# Altium footprint library SPINNER_TWIN_STARS.PcbLib: 46 footprints (part 1 of 3)
Each footprint in its own frame and in the unit in brackets; x right, y up, seen from the top. Pads: shape width x height; smd on the part's side, far side on the other; paste and mask are expansions set on the pad; w line width, h text height; cw(c..) or ccw(c..) is an arc to the next point about the centre after c.
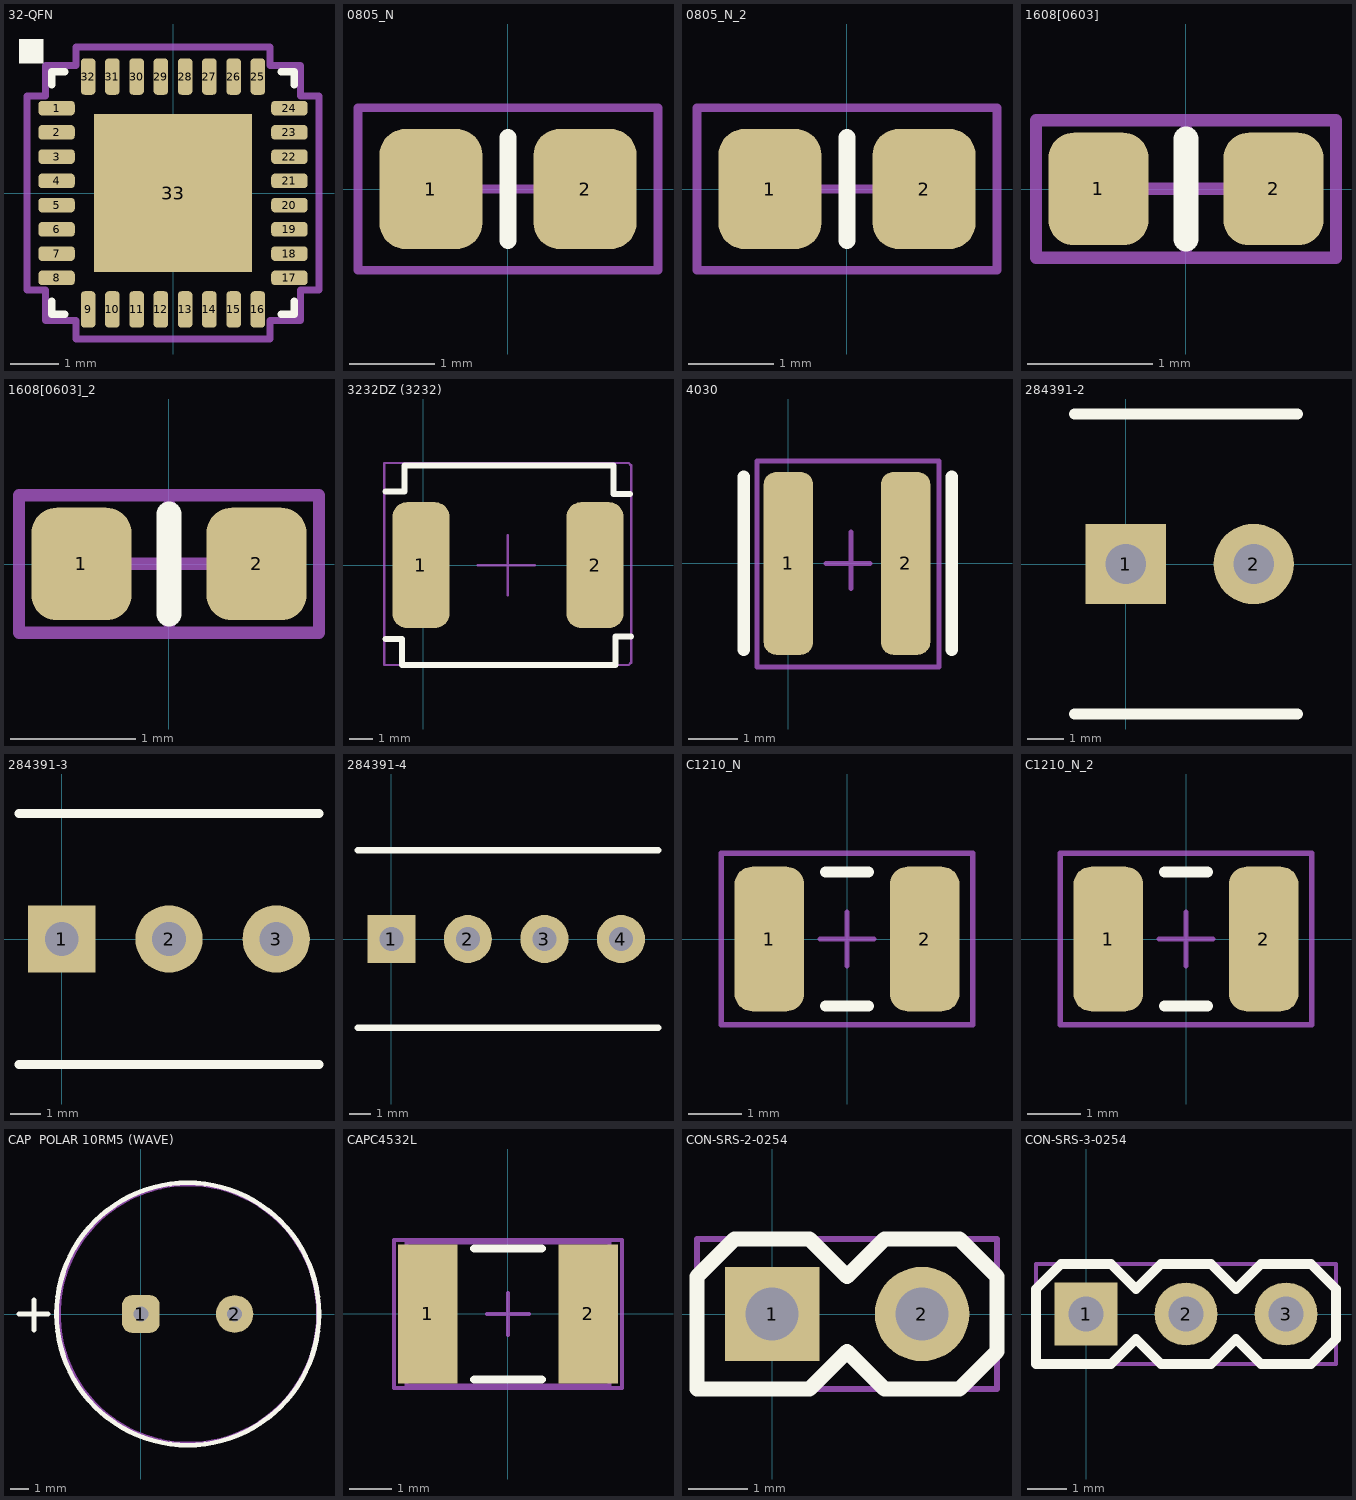
[diagram p0: the footprints below, top view; thin cyan lines are the x and y axes]

## 32-QFN [mm]
pads (33):
  rrect50% 0.75x0.3 smd mask+0.102: 1(-2.4,1.75)
  rrect50% 0.75x0.3 smd: 2(-2.4,1.25) 3(-2.4,0.75) 4(-2.4,0.25) 5(-2.4,-0.25) 6(-2.4,-0.75) 7(-2.4,-1.25) 8(-2.4,-1.75) 17(2.4,-1.75) 18(2.4,-1.25) 19(2.4,-0.75) 20(2.4,-0.25) 21(2.4,0.25) 22(2.4,0.75) 23(2.4,1.25) 24(2.4,1.75)
  rrect50% 0.3x0.75 smd mask+0.102: 9(-1.75,-2.4)
  rrect50% 0.3x0.75 smd: 10(-1.25,-2.4) 11(-0.75,-2.4) 12(-0.25,-2.4) 13(0.25,-2.4) 14(0.75,-2.4) 15(1.25,-2.4) 16(1.75,-2.4) 25(1.75,2.4) 26(1.25,2.4) 27(0.75,2.4) 28(0.25,2.4) 29(-0.25,2.4) 30(-0.75,2.4) 31(-1.25,2.4) 32(-1.75,2.4)
  rect 3.251x3.251 smd paste-1.613: 33(0,0)
Top silk:
  rectangle: -3.175,2.667 -2.667,3.175
  lines w0.152: -2.502,-2.235 -2.502,-2.502 -2.235,-2.502 ; -2.502,2.235 -2.502,2.502 -2.235,2.502 ; 2.235,-2.502 2.502,-2.502 2.502,-2.235 ; 2.235,2.502 2.502,2.502 2.502,2.235
Top Paste:
  region: -0.1,1.526 -1.526,1.526 -1.526,0.1 -0.1,0.1
  region: -0.1,-0.1 -1.526,-0.1 -1.526,-1.526 -0.1,-1.526
  region: 1.526,1.526 0.1,1.526 0.1,0.1 1.526,0.1
  region: 1.526,-0.1 0.1,-0.1 0.1,-1.526 1.526,-1.526
Mechanical 15:
  lines w0.152: -3.01,-2 -2.629,-2 -2.629,-2.629 -2,-2.629 -2,-3.01 2,-3.01 2,-2.629 2.629,-2.629 2.629,-2 3.01,-2 3.01,2 2.629,2 2.629,2.629 2,2.629 2,3.01 -2,3.01 -2,2.629 -2.629,2.629 -2.629,2 -3.01,2 -3.01,-2

## 0805_N [mm] "Chip Resistor, Body 2.0x1.2mm, IPC Medium Density"
height 0.7
pads (2):
  rrect50% 1.2x1.4 smd: 1(-0.9,0) 2(0.9,0)
Top silk:
  lines w0.2: 0,-0.6 0,0.6
Mechanical 15:
  lines w0.1: -0.5,0 0.5,0 ; 0,-0.5 0,0.5 ; -1.75,-0.95 1.75,-0.95 1.75,0.95 -1.75,0.95 -1.75,-0.95

## 0805_N_2 [mm]
pads (2):
  rrect50% 1.2x1.4 smd: 1(-0.9,0) 2(0.9,0)
Top silk:
  lines w0.2: 0,-0.6 0,0.6
Mechanical 15:
  lines w0.1: -0.5,0 0.5,0 ; 0,-0.5 0,0.5 ; -1.75,-0.95 -1.75,0.95 1.75,0.95 1.75,-0.95 -1.75,-0.95

## 1608[0603] [mm] "Chip Capacitor, Body 1.6x0.8mm, IPC High Density"
height 1.3
pads (2):
  rrect50% 0.8x0.9 smd: 1(-0.7,0) 2(0.7,0)
Top silk:
  lines w0.2: 0,-0.4 0,0.4
Mechanical 15:
  lines w0.1: -0.475,0 0.475,0 ; 0,-0.475 0,0.475 ; -1.2,-0.55 -1.2,0.55 1.2,0.55 1.2,-0.55 -1.2,-0.55

## 1608[0603]_2 [mm]
pads (2):
  rrect50% 0.8x0.9 smd: 1(-0.7,0) 2(0.7,0)
Top silk:
  lines w0.2: 0,-0.4 0,0.4
Mechanical 15:
  lines w0.1: -0.475,0 0.475,0 ; 0,-0.475 0,0.475 ; -1.2,-0.55 1.2,-0.55 1.2,0.55 -1.2,0.55 -1.2,-0.55

## 3232DZ (3232) [mm]
pads (2):
  rrect50% 2.4x5.3 smd paste-0.1 mask+0.1: 1(-0.1,0) 2(7.23,0)
Top silk:
  lines w0.254: -1.6,-3.1 -0.9,-3.1 -0.9,-4.2 8.1,-4.2 8.1,-3 8.75,-3 ; -1.6,3.1 -0.8,3.1 -0.8,4.2 8,4.2 8,3 8.7,3
Mechanical 15:
  lines w0.1: 2.286,0 4.699,0 ; 3.556,-1.27 3.556,1.27 ; -1.65,-4.2 -1.65,4.3 8.65,4.3 8.75,4.2 8.75,-4.1 8.65,-4.2 -1.65,-4.2

## 4030 [mm]
pads (2):
  rrect50% 1x3.7 smd paste-0.05 mask+0.1: 1(0,0) 2(2.37,0)
Top silk:
  lines w0.254: -0.9,-1.75 -0.9,1.75 ; 3.3,-1.75 3.3,1.75
Mechanical 15:
  lines w0.1: 0.762,0 1.651,0 ; 1.27,-0.508 1.27,0.635 ; -0.635,-2.1 3.048,-2.1 3.048,2.075 -0.635,2.075 -0.635,-2.1

## 284391-2 [mm] "3.5mm terminal block 2-pin"
height 12.6
pads (2):
  rect 2.2x2.2 hole 1.1: 1(0,0)
  round 2.2 hole 1.1: 2(3.5,0)
Top silk:
  lines w0.3: -1.4,-4.1 4.7,-4.1 ; -1.4,4.1 4.7,4.1

## 284391-3 [mm] "3.5mm terminal block 3-pin"
height 12.6
pads (3):
  rect 2.2x2.2 hole 1.1: 1(0,0)
  round 2.2 hole 1.1: 2(3.5,0) 3(7,0)
Top silk:
  lines w0.3: -1.4,-4.1 8.4,-4.1 ; -1.4,4.1 8.4,4.1

## 284391-4 [mm] "3.5mm terminal block 3-pin"
height 12.6
pads (4):
  rect 2.2x2.2 hole 1.1: 1(0,0)
  round 2.2 hole 1.1: 2(3.5,0) 3(7,0) 4(10.5,0)
Top silk:
  lines w0.3: -1.524,-4.064 12.192,-4.064 ; -1.524,4.064 12.192,4.064

## C1210_N [mm] "Chip Capacitor, Body 3.2x2.5mm, IPC Medium Density"
height 1.5
pads (2):
  rrect50% 1.3x2.7 smd: 1(-1.45,0) 2(1.45,0)
Top silk:
  lines w0.2: -0.4,-1.25 0.4,-1.25 ; -0.4,1.25 0.4,1.25
Mechanical 15:
  lines w0.1: -0.5,0 0.5,0 ; 0,-0.5 0,0.5 ; -2.35,-1.6 -2.35,1.6 2.35,1.6 2.35,-1.6 -2.35,-1.6

## C1210_N_2 [mm]
pads (2):
  rrect50% 1.3x2.7 smd: 1(-1.45,0) 2(1.45,0)
Top silk:
  lines w0.2: -0.4,-1.25 0.4,-1.25 ; -0.4,1.25 0.4,1.25
Mechanical 15:
  lines w0.1: -0.5,0 0.5,0 ; 0,-0.5 0,0.5 ; -2.35,-1.6 2.35,-1.6 2.35,1.6 -2.35,1.6 -2.35,-1.6

## CAP  POLAR 10RM5 (WAVE) [mm]
pads (2):
  rrect50% 2x2 hole 0.8 paste+0 mask+0.635: 1(0,0)
  round 2 hole 0.8 paste+0 mask+0.635: 2(5,0)
Top silk:
  lines w0.254: -6.5,0 -4.95,0 ; -5.7,-0.85 -5.7,0.75 ; 2.5,-7 ccw(c2.5,0) 2.5,7 ccw(c2.5,0) 2.5,-7
Mechanical 15:
  circle w0.254: c2.54,0 r6.94

## CAPC4532L [mm] "Chip Capacitor, Body 4.5x3.2mm, IPC High Density"
height 1.4
pads (2):
  rect 1.4x3.3 smd: 1(-1.9,0) 2(1.9,0)
Top silk:
  lines w0.2: -0.8,-1.55 0.8,-1.55 ; -0.8,1.55 0.8,1.55
Documentation:
  lines w0.1: -2.4,-1.7 -2.4,1.7 2.4,1.7 2.4,-1.7 -2.4,-1.7
Mechanical 15:
  lines w0.1: -0.5,0 0.5,0 ; 0,-0.5 0,0.5 ; -2.7,-1.75 -2.7,1.75 2.7,1.75 2.7,-1.75 -2.7,-1.75
3D body: height 1.4, standoff 0, extent -2.4,-1.7 2.4,1.7

## CON-SRS-2-0254 [mil]
height 393.7
pads (2):
  rect 63x63 hole 35.43 paste+0 mask+5: 1(0,0)
  round 63 hole 35.43 paste+0 mask+8: 2(100,0)
Top silk:
  lines w10: -50,-50 25,-50 50,-25 75,-50 125,-50 150,-25 150,25 125,50 75,50 50,25 25,50 -25,50 -50,25 -50,-49.21
Mechanical 15:
  lines w3.94: -50,-50 -50,50 150,50 150,-50 -50,-50

## CON-SRS-3-0254 [mil]
height 393.7
pads (3):
  rect 63x63 hole 35.43 paste+0 mask+8: 1(0,0)
  round 63 hole 35.43 paste+0 mask+8: 2(100,0) 3(200,0)
Top silk:
  lines w10: -50,-50 -50,25 -25,50 25,50 50,25 75,50 125,50 150,25 175,50 225,50 250,25 250,-25 225,-50 175,-50 150,-25 125,-50 75,-50 50,-25 25,-50 -49.21,-50
Mechanical 15:
  lines w3.94: -50,-50 -50,50 250,50 250,-50 -50,-50